# Altium schematic symbol library MI_Personal.SchLib: 995 symbols (part 7 of 12)
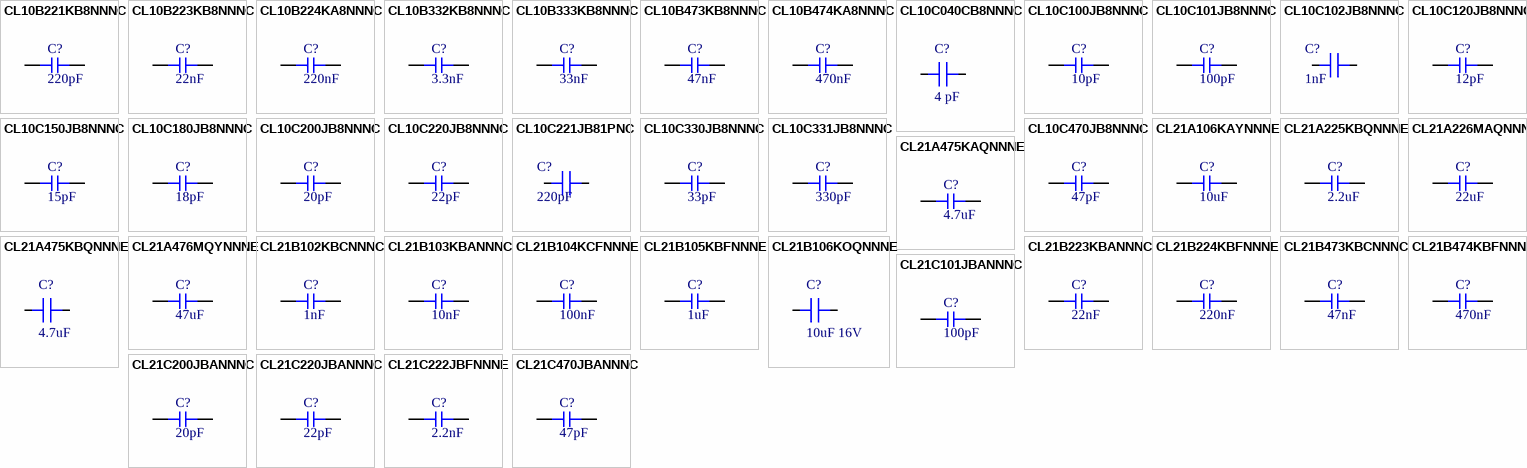
[diagram p33: symbols CL10B221KB8NNNC to CL21C470JBANNNC]

## CL10B224KA8NNNC
designator C?  Capacitance: 220nF  (hidden comment: *)
Capacitor, Ceramic (MLCC), 220nF, ±10%, 25V, X7R, ±10%, SMD 0603; Manufacturer: Samsung Electro-Mechanics; Manufacturer Part Number: CL10B224KA8NNNC; Temperature Rating: -55°C ~ 125°C; Capacitance @ 1V DC Bias: 214.166nF; Capacitance @ 1.2V DC Bias: 214.149nF; Capacitance @ 1.35V DC Bias: 214.098nF; Capacitance @ 1.5V DC Bias: 214.017nF; Capacitance @ 1.8V DC Bias: 213.754nF; Capacitance @ 2.5V DC Bias: 212.583nF; Capacitance @ 3.3V DC Bias: 210.552nF; Capacitance @ 3.7V DC Bias: 209.339nF; Capacitance @ 4.2V DC Bias: 207.706nF; Capacitance @ 5V DC Bias: 204.830nF; Capacitance @ 9V DC Bias: 188.295nF; Capacitance @ 12V DC Bias: 174.297nF; Capacitance @ 15V DC Bias: 160.282nF; Capacitance @ 24V DC Bias: 121.097nF; Impedance (0V Bias) @ 100Hz: 7.47E+03Ω; Impedance (0V Bias) @ 500Hz: 1.52E+03Ω; Impedance (0V Bias) @ 1kHz: 764Ω; Impedance (0V Bias) @ 5kHz: 155Ω; Impedance (0V Bias) @ 10kHz: 77.8Ω; Impedance (0V Bias) @ 50kHz: 15.8Ω; Impedance (0V Bias) @ 100kHz: 7.94Ω; Impedance (0V Bias) @ 500kHz: 1.61Ω; Impedance (0V Bias) @ 1MHz: 0.807Ω; Impedance (0V Bias) @ 5MHz: 0.15Ω; Impedance (0V Bias) @ 10MHz: 0.0545Ω; Impedance (0V Bias) @ 50MHz: 0.0963Ω; Impedance (0V Bias) @ 100MHz: 0.167Ω; Impedance (0V Bias) @ 500MHz: 0.676Ω; Impedance (0V Bias) @ 1GHz: 1.25Ω; Impedance (0V Bias) @ 2GHz: 3.05Ω; Impedance (0V Bias) @ 5GHz: 6.58Ω; Impedance (25V Bias) @ 100Hz: 1.33E+04Ω; Impedance (25V Bias) @ 500Hz: 2.69E+03Ω; Impedance (25V Bias) @ 1kHz: 1.35E+03Ω; Impedance (25V Bias) @ 5kHz: 274Ω; Impedance (25V Bias) @ 10kHz: 138Ω; Impedance (25V Bias) @ 50kHz: 27.9Ω; Impedance (25V Bias) @ 100kHz: 14Ω; Impedance (25V Bias) @ 500kHz: 2.83Ω; Impedance (25V Bias) @ 1MHz: 1.4Ω; Impedance (25V Bias) @ 5MHz: 0.297Ω; Impedance (25V Bias) @ 10MHz: 0.124Ω; Impedance (25V Bias) @ 50MHz: 0.11Ω; Impedance (25V Bias) @ 100MHz: 0.168Ω; Impedance (25V Bias) @ 2GHz: 3.02Ω; Package Size: 0603; JLCPCB Basic Part: Yes; JLCPCB Part Number: C21120; Supplier 1: LCSC; Category: Capacitors - MLCC; Supplier Part Number 1: C21120; Tolerance: ±10%; Voltage Rating: 25V; Temperature Coefficient: X7R; RoHS: Yes; ComponentLink1Description: Datasheet; ComponentLink1URL: https://wmsc.lcsc.com/wmsc/upload/file/pdf/v2/lcsc/2304140030_Samsung-Electro-Mechanics-CL10B224KA8NNNC_C21120.pdf; ComponentLink2Description: JLCPCB Part URL; ComponentLink2URL: https://jlcpcb.com/partdetail/C21120; ComponentLink3Description: LCSC Part URL; ComponentLink3URL: https://lcsc.com/product-detail/Multilayer-Ceramic-Capacitors-MLCC---SMD-SMT_Samsung-Electro-Mechanics-Samsung-Electro-Mechanics-CL10B224KA8NNNC_C21120.html; ComponentLink4Description: Samsung Component Library; ComponentLink4URL: https://weblib.samsungsem.com/mlcc/mlcc-ec.do?partNumber=CL10B224KA8NNN; Impedance (25V Bias) @ 500MHz: 0.676Ω; Impedance (25V Bias) @ 1GHz: 1.25Ω; Impedance (25V Bias) @ 5GHz: 6.58Ω
footprint CAP-0603 (0603 (1608M) Capacitor)
pins: 1, 2

## CL10B332KB8NNNC
designator C?  Capacitance: 3.3nF  (hidden comment: *)
Capacitor, Ceramic (MLCC), 3.3nF, ±10%, 50V, X7R, ±10%, SMD 0603; Manufacturer: Samsung Electro-Mechanics; Manufacturer Part Number: CL10B332KB8NNNC; Temperature Rating: -55°C ~ 125°C; Capacitance @ 1V DC Bias: 3.419nF; Capacitance @ 1.2V DC Bias: 3.421nF; Capacitance @ 1.35V DC Bias: 3.422nF; Capacitance @ 1.5V DC Bias: 3.424nF; Capacitance @ 1.8V DC Bias: 3.428nF; Capacitance @ 2.5V DC Bias: 3.437nF; Capacitance @ 3.3V DC Bias: 3.446nF; Capacitance @ 3.7V DC Bias: 3.450nF; Capacitance @ 4.2V DC Bias: 3.455nF; Capacitance @ 5V DC Bias: 3.461nF; Capacitance @ 9V DC Bias: 3.485nF; Capacitance @ 12V DC Bias: 3.488nF; Capacitance @ 15V DC Bias: 3.484nF; Capacitance @ 36V DC Bias: 3.270nF; Capacitance @ 48V DC Bias: 3.077nF; Impedance (0V Bias) @ 100Hz: 4.88E+05Ω; Impedance (0V Bias) @ 500Hz: 9.93E+04Ω; Impedance (0V Bias) @ 1kHz: 5E+04Ω; Impedance (0V Bias) @ 5kHz: 1.02E+04Ω; Impedance (0V Bias) @ 10kHz: 5.11E+03Ω; Impedance (0V Bias) @ 50kHz: 1.04E+03Ω; Impedance (0V Bias) @ 100kHz: 522Ω; Impedance (0V Bias) @ 500kHz: 106Ω; Impedance (0V Bias) @ 1MHz: 53.4Ω; Impedance (0V Bias) @ 5MHz: 10.9Ω; Impedance (0V Bias) @ 10MHz: 5.48Ω; Impedance (0V Bias) @ 50MHz: 1.01Ω; Impedance (0V Bias) @ 100MHz: 0.315Ω; Impedance (0V Bias) @ 500MHz: 1.17Ω; Impedance (0V Bias) @ 1GHz: 2.31Ω; Impedance (0V Bias) @ 2GHz: 5.99Ω; Impedance (0V Bias) @ 5GHz: 14.4Ω; Package Size: 0603; JLCPCB Basic Part: Yes; JLCPCB Part Number: C1613; Supplier 1: LCSC; Category: Capacitors - MLCC; Supplier Part Number 1: C1613; Tolerance: ±10%; Voltage Rating: 50V; Temperature Coefficient: X7R; RoHS: Yes; ComponentLink1Description: Datasheet; ComponentLink1URL: https://wmsc.lcsc.com/wmsc/upload/file/pdf/v2/lcsc/2304140030_Samsung-Electro-Mechanics-CL10B332KB8NNNC_C1613.pdf; ComponentLink2Description: JLCPCB Part URL; ComponentLink2URL: https://jlcpcb.com/partdetail/C1613; ComponentLink3Description: LCSC Part URL; ComponentLink3URL: https://lcsc.com/product-detail/Multilayer-Ceramic-Capacitors-MLCC---SMD-SMT_Samsung-Electro-Mechanics-Samsung-Electro-Mechanics-CL10B332KB8NNNC_C1613.html; ComponentLink4Description: Samsung Component Library; ComponentLink4URL: https://weblib.samsungsem.com/mlcc/mlcc-ec.do?partNumber=CL10B332KB8NNN; Capacitance @ 24V DC Bias: 3.422nF
footprint CAP-0603 (0603 (1608M) Capacitor)
pins: 1, 2

## CL10B333KB8NNNC
designator C?  Capacitance: 33nF  (hidden comment: *)
Capacitor, Ceramic (MLCC), 33nF, ±10%, 50V, X7R, ±10%, SMD 0603; Manufacturer: Samsung Electro-Mechanics; Manufacturer Part Number: CL10B333KB8NNNC; Temperature Rating: -55°C ~ 125°C; Capacitance @ 1V DC Bias: 32.568nF; Capacitance @ 1.2V DC Bias: 32.574nF; Capacitance @ 1.35V DC Bias: 32.601nF; Capacitance @ 1.5V DC Bias: 32.639nF; Capacitance @ 1.8V DC Bias: 32.736nF; Capacitance @ 2.5V DC Bias: 32.973nF; Capacitance @ 3.3V DC Bias: 33.205nF; Capacitance @ 3.7V DC Bias: 33.269nF; Capacitance @ 4.2V DC Bias: 33.287nF; Capacitance @ 5V DC Bias: 33.190nF; Capacitance @ 9V DC Bias: 32.640nF; Capacitance @ 12V DC Bias: 31.976nF; Capacitance @ 15V DC Bias: 31.196nF; Capacitance @ 24V DC Bias: 28.006nF; Capacitance @ 36V DC Bias: 22.645nF; Capacitance @ 48V DC Bias: 16.419nF; Impedance (0V Bias) @ 100Hz: 4.98E+04Ω; Impedance (0V Bias) @ 500Hz: 1.01E+04Ω; Impedance (0V Bias) @ 1kHz: 5.1E+03Ω; Impedance (0V Bias) @ 5kHz: 1.03E+03Ω; Impedance (0V Bias) @ 10kHz: 520Ω; Impedance (0V Bias) @ 50kHz: 105Ω; Impedance (0V Bias) @ 100kHz: 52.9Ω; Impedance (0V Bias) @ 500kHz: 10.7Ω; Impedance (0V Bias) @ 1MHz: 5.38Ω; Impedance (0V Bias) @ 5MHz: 1.08Ω; Impedance (0V Bias) @ 10MHz: 0.525Ω; Impedance (0V Bias) @ 50MHz: 0.0517Ω; Impedance (0V Bias) @ 100MHz: 0.207Ω; Impedance (0V Bias) @ 500MHz: 0.857Ω; Impedance (0V Bias) @ 1GHz: 1.64Ω; Impedance (0V Bias) @ 2GHz: 4.13Ω; Impedance (0V Bias) @ 5GHz: 8.72Ω; Package Size: 0603; JLCPCB Basic Part: Yes; JLCPCB Part Number: C21117; Supplier 1: LCSC; Category: Capacitors - MLCC; Supplier Part Number 1: C21117; Tolerance: ±10%; Voltage Rating: 50V; Temperature Coefficient: X7R; RoHS: Yes; ComponentLink1Description: Datasheet; ComponentLink1URL: https://wmsc.lcsc.com/wmsc/upload/file/pdf/v2/lcsc/2304140030_Samsung-Electro-Mechanics-CL10B333KB8NNNC_C21117.pdf; ComponentLink2Description: JLCPCB Part URL; ComponentLink2URL: https://jlcpcb.com/partdetail/C21117; ComponentLink3Description: LCSC Part URL; ComponentLink3URL: https://lcsc.com/product-detail/Multilayer-Ceramic-Capacitors-MLCC---SMD-SMT_Samsung-Electro-Mechanics-Samsung-Electro-Mechanics-CL10B333KB8NNNC_C21117.html; ComponentLink4Description: Samsung Component Library; ComponentLink4URL: https://weblib.samsungsem.com/mlcc/mlcc-ec.do?partNumber=CL10B333KB8NNN
footprint CAP-0603 (0603 (1608M) Capacitor)
pins: 1, 2

## CL10B473KB8NNNC
designator C?  Capacitance: 47nF  (hidden comment: *)
Capacitor, Ceramic (MLCC), 47nF, ±10%, 50V, X7R, ±10%, SMD 0603; Manufacturer: Samsung Electro-Mechanics; Manufacturer Part Number: CL10B473KB8NNNC; Temperature Rating: -55°C ~ 125°C; Capacitance @ 1V DC Bias: 47.231nF; Capacitance @ 1.2V DC Bias: 47.280nF; Capacitance @ 1.35V DC Bias: 47.319nF; Capacitance @ 1.5V DC Bias: 47.357nF; Capacitance @ 1.8V DC Bias: 47.426nF; Capacitance @ 2.5V DC Bias: 47.515nF; Capacitance @ 3.3V DC Bias: 47.532nF; Capacitance @ 3.7V DC Bias: 47.514nF; Capacitance @ 4.2V DC Bias: 47.475nF; Capacitance @ 5V DC Bias: 47.375nF; Capacitance @ 9V DC Bias: 46.446nF; Capacitance @ 12V DC Bias: 45.320nF; Capacitance @ 15V DC Bias: 44.061nF; Capacitance @ 24V DC Bias: 39.258nF; Capacitance @ 36V DC Bias: 31.412nF; Capacitance @ 48V DC Bias: 23.014nF; Impedance (0V Bias) @ 100Hz: 3.3E+04Ω; Impedance (0V Bias) @ 500Hz: 6.73E+03Ω; Impedance (0V Bias) @ 1kHz: 3.4E+03Ω; Impedance (0V Bias) @ 5kHz: 693Ω; Impedance (0V Bias) @ 10kHz: 349Ω; Impedance (0V Bias) @ 50kHz: 71.1Ω; Impedance (0V Bias) @ 100kHz: 35.7Ω; Impedance (0V Bias) @ 500kHz: 7.27Ω; Impedance (0V Bias) @ 1MHz: 3.65Ω; Impedance (0V Bias) @ 5MHz: 0.738Ω; Impedance (0V Bias) @ 10MHz: 0.364Ω; Impedance (0V Bias) @ 50MHz: 0.0607Ω; Impedance (0V Bias) @ 100MHz: 0.192Ω; Impedance (0V Bias) @ 500MHz: 0.928Ω; Impedance (0V Bias) @ 1GHz: 1.81Ω; Impedance (0V Bias) @ 2GHz: 4.68Ω; Impedance (0V Bias) @ 5GHz: 10.5Ω; Package Size: 0603; JLCPCB Basic Part: Yes; JLCPCB Part Number: C1622; Supplier 1: LCSC; Category: Capacitors - MLCC; Supplier Part Number 1: C1622; Tolerance: ±10%; Voltage Rating: 50V; Temperature Coefficient: X7R; RoHS: Yes; ComponentLink1Description: Datasheet; ComponentLink1URL: https://wmsc.lcsc.com/wmsc/upload/file/pdf/v2/lcsc/2304140030_Samsung-Electro-Mechanics-CL10B473KB8NNNC_C1622.pdf; ComponentLink2Description: JLCPCB Part URL; ComponentLink2URL: https://jlcpcb.com/partdetail/C1622; ComponentLink3Description: LCSC Part URL; ComponentLink3URL: https://lcsc.com/product-detail/Multilayer-Ceramic-Capacitors-MLCC---SMD-SMT_Samsung-Electro-Mechanics-Samsung-Electro-Mechanics-CL10B473KB8NNNC_C1622.html; ComponentLink4Description: Samsung Component Library; ComponentLink4URL: https://weblib.samsungsem.com/mlcc/mlcc-ec.do?partNumber=CL10B473KB8NNN
footprint CAP-0603 (0603 (1608M) Capacitor)
pins: 1, 2

## CL10B474KA8NNNC
designator C?  Capacitance: 470nF  (hidden comment: *)
Capacitor, Ceramic (MLCC), 470nF, ±10%, 25V, X7R, ±10%, SMD 0603; Manufacturer: Samsung Electro-Mechanics; Manufacturer Part Number: CL10B474KA8NNNC; Temperature Rating: -55°C ~ 125°C; Capacitance @ 1V DC Bias: 478.182nF; Capacitance @ 1.2V DC Bias: 478.296nF; Capacitance @ 1.35V DC Bias: 478.281nF; Capacitance @ 1.5V DC Bias: 478.153nF; Capacitance @ 1.8V DC Bias: 477.489nF; Capacitance @ 2.5V DC Bias: 472.414nF; Capacitance @ 3.3V DC Bias: 462.957nF; Capacitance @ 3.7V DC Bias: 457.410nF; Capacitance @ 4.2V DC Bias: 450.090nF; Capacitance @ 5V DC Bias: 437.532nF; Capacitance @ 9V DC Bias: 369.261nF; Capacitance @ 12V DC Bias: 317.341nF; Capacitance @ 15V DC Bias: 268.462nF; Capacitance @ 24V DC Bias: 160.798nF; Impedance (0V Bias) @ 100Hz: 3.92E+03Ω; Impedance (0V Bias) @ 500Hz: 796Ω; Impedance (0V Bias) @ 1kHz: 401Ω; Impedance (0V Bias) @ 5kHz: 81.2Ω; Impedance (0V Bias) @ 10kHz: 40.9Ω; Impedance (0V Bias) @ 50kHz: 8.29Ω; Impedance (0V Bias) @ 100kHz: 4.17Ω; Impedance (0V Bias) @ 500kHz: 0.844Ω; Impedance (0V Bias) @ 1MHz: 0.422Ω; Impedance (0V Bias) @ 5MHz: 0.0719Ω; Impedance (0V Bias) @ 10MHz: 0.0175Ω; Impedance (0V Bias) @ 50MHz: 0.0949Ω; Impedance (0V Bias) @ 100MHz: 0.17Ω; Impedance (0V Bias) @ 500MHz: 0.717Ω; Impedance (0V Bias) @ 1GHz: 1.36Ω; Impedance (0V Bias) @ 2GHz: 3.45Ω; Impedance (0V Bias) @ 5GHz: 7.51Ω; Impedance (25V Bias) @ 100Hz: 1.18E+04Ω; Impedance (25V Bias) @ 500Hz: 2.38E+03Ω; Impedance (25V Bias) @ 1kHz: 1.2E+03Ω; Impedance (25V Bias) @ 5kHz: 242Ω; Impedance (25V Bias) @ 10kHz: 121Ω; Impedance (25V Bias) @ 50kHz: 24.5Ω; Impedance (25V Bias) @ 100kHz: 12.3Ω; Impedance (25V Bias) @ 500kHz: 2.47Ω; Impedance (25V Bias) @ 1MHz: 1.22Ω; Impedance (25V Bias) @ 5MHz: 0.256Ω; Impedance (25V Bias) @ 10MHz: 0.109Ω; Impedance (25V Bias) @ 50MHz: 0.11Ω; Impedance (25V Bias) @ 100MHz: 0.171Ω; Impedance (25V Bias) @ 500MHz: 0.718Ω; Impedance (25V Bias) @ 2GHz: 3.41Ω; Impedance (25V Bias) @ 5GHz: 7.6Ω; Package Size: 0603; JLCPCB Basic Part: Yes; JLCPCB Part Number: C1623; Supplier 1: LCSC; Category: Capacitors - MLCC; Supplier Part Number 1: C1623; Tolerance: ±10%; Voltage Rating: 25V; Temperature Coefficient: X7R; RoHS: Yes; ComponentLink1Description: Datasheet; ComponentLink1URL: https://wmsc.lcsc.com/wmsc/upload/file/pdf/v2/lcsc/2304140030_Samsung-Electro-Mechanics-CL10B474KA8NNNC_C1623.pdf; ComponentLink2Description: JLCPCB Part URL; ComponentLink2URL: https://jlcpcb.com/partdetail/C1623; ComponentLink3Description: LCSC Part URL; ComponentLink3URL: https://lcsc.com/product-detail/Multilayer-Ceramic-Capacitors-MLCC---SMD-SMT_Samsung-Electro-Mechanics-Samsung-Electro-Mechanics-CL10B474KA8NNNC_C1623.html; ComponentLink4Description: Samsung Component Library; ComponentLink4URL: https://weblib.samsungsem.com/mlcc/mlcc-ec.do?partNumber=CL10B474KA8NNN; Impedance (25V Bias) @ 1GHz: 1.36Ω
footprint CAP-0603 (0603 (1608M) Capacitor)
pins: 1, 2

## CL10C040CB8NNNC
designator C?, comment 4 pF
CAP CER 4PF 50V C0G/NP0 0603; Supplier 1: Digikey; Supplier Part Number 1: 1276-1789-1-ND; Supplier 2: LCSC; Supplier Part Number 2: C5143542; Supplier 3: Digikey; Supplier Part Number 3: 13-CC0603BRNPO9BN4R0CT-ND; Supplier 4: LCSC; Supplier Part Number 4: C309461
footprint CAP 0603_1608 (Chip Capacitor, 2-Leads, Body 1.60x0.80mm, IPC Medium Density)
pins: 1, 2

## CL10C100JB8NNNC
designator C?  Capacitance: 10pF  (hidden comment: *)
Capacitor, Ceramic (MLCC), 10pF, ±5%, 50V, C0G, ±5%, SMD 0603; Manufacturer: Samsung Electro-Mechanics; Manufacturer Part Number: CL10C100JB8NNNC; Temperature Rating: -55°C ~ 125°C; Impedance (0V Bias) @ 100MHz: 159Ω; Impedance (0V Bias) @ 500MHz: 30.3Ω; Impedance (0V Bias) @ 1GHz: 12.8Ω; Impedance (0V Bias) @ 2GHz: 1.36Ω; Impedance (0V Bias) @ 5GHz: 12.1Ω; Package Size: 0603; JLCPCB Basic Part: Yes; JLCPCB Part Number: C1634; Supplier 1: LCSC; Category: Capacitors - MLCC; Supplier Part Number 1: C1634; Tolerance: ±5%; Voltage Rating: 50V; Temperature Coefficient: C0G; RoHS: Yes; ComponentLink1Description: Datasheet; ComponentLink1URL: https://wmsc.lcsc.com/wmsc/upload/file/pdf/v2/lcsc/2304140030_Samsung-Electro-Mechanics-CL10C100JB8NNNC_C1634.pdf; ComponentLink2Description: JLCPCB Part URL; ComponentLink2URL: https://jlcpcb.com/partdetail/C1634; ComponentLink3Description: LCSC Part URL; ComponentLink3URL: https://lcsc.com/product-detail/Multilayer-Ceramic-Capacitors-MLCC---SMD-SMT_Samsung-Electro-Mechanics-Samsung-Electro-Mechanics-CL10C100JB8NNNC_C1634.html; ComponentLink4Description: Samsung Component Library; ComponentLink4URL: https://weblib.samsungsem.com/mlcc/mlcc-ec.do?partNumber=CL10C100JB8NNN
footprint CAP-0603 (0603 (1608M) Capacitor)
pins: 1, 2

## CL10C101JB8NNNC
designator C?  Capacitance: 100pF  (hidden comment: *)
Capacitor, Ceramic (MLCC), 100pF, ±5%, 50V, C0G, ±5%, SMD 0603; Manufacturer: Samsung Electro-Mechanics; Manufacturer Part Number: CL10C101JB8NNNC; Temperature Rating: -55°C ~ 125°C; Impedance (0V Bias) @ 100MHz: 15.6Ω; Impedance (0V Bias) @ 500MHz: 1.7Ω; Impedance (0V Bias) @ 1GHz: 1.36Ω; Impedance (0V Bias) @ 2GHz: 7.02Ω; Impedance (0V Bias) @ 5GHz: 12.9Ω; Package Size: 0603; JLCPCB Basic Part: Yes; JLCPCB Part Number: C14858; Supplier 1: LCSC; Category: Capacitors - MLCC; Supplier Part Number 1: C14858; Tolerance: ±5%; Voltage Rating: 50V; Temperature Coefficient: C0G; RoHS: Yes; ComponentLink1Description: Datasheet; ComponentLink1URL: https://wmsc.lcsc.com/wmsc/upload/file/pdf/v2/lcsc/2304140030_Samsung-Electro-Mechanics-CL10C101JB8NNNC_C14858.pdf; ComponentLink2Description: JLCPCB Part URL; ComponentLink2URL: https://jlcpcb.com/partdetail/C14858; ComponentLink3Description: LCSC Part URL; ComponentLink3URL: https://lcsc.com/product-detail/Multilayer-Ceramic-Capacitors-MLCC---SMD-SMT_Samsung-Electro-Mechanics-Samsung-Electro-Mechanics-CL10C101JB8NNNC_C14858.html; ComponentLink4Description: Samsung Component Library; ComponentLink4URL: https://weblib.samsungsem.com/mlcc/mlcc-ec.do?partNumber=CL10C101JB8NNN
footprint CAP-0603 (0603 (1608M) Capacitor)
pins: 1, 2

## CL10C102JB8NNNC
designator C?, comment 1nF
CAP CER 1000PF 50V C0G/NP0 0603; Supplier 1: DigiKey; Supplier Part Number 1: 1276-1091-1-ND; Supplier 2: LCSC; Supplier Part Number 2: C163508; Supplier 3: Digikey; Supplier Part Number 3: 490-6379-1-ND; Supplier 4: LCSC; Supplier Part Number 4: C2167114
footprint CAP 0603_1608 (Chip Capacitor, 2-Leads, Body 1.60x0.80mm, IPC Medium Density)
pins: 1, 2

## CL10C120JB8NNNC
designator C?  Capacitance: 12pF  (hidden comment: *)
Capacitor, Ceramic (MLCC), 12pF, ±5%, 50V, C0G, ±5%, SMD 0603; Manufacturer: Samsung Electro-Mechanics; Manufacturer Part Number: CL10C120JB8NNNC; Temperature Rating: -55°C ~ 125°C; Impedance (0V Bias) @ 100MHz: 132Ω; Impedance (0V Bias) @ 500MHz: 25Ω; Impedance (0V Bias) @ 1GHz: 10.2Ω; Impedance (0V Bias) @ 2GHz: 2.16Ω; Impedance (0V Bias) @ 5GHz: 12.3Ω; Package Size: 0603; JLCPCB Basic Part: Yes; JLCPCB Part Number: C38523; Supplier 1: LCSC; Category: Capacitors - MLCC; Supplier Part Number 1: C38523; Tolerance: ±5%; Voltage Rating: 50V; Temperature Coefficient: C0G; RoHS: Yes; ComponentLink1Description: Datasheet; ComponentLink1URL: https://wmsc.lcsc.com/wmsc/upload/file/pdf/v2/lcsc/2304140030_Samsung-Electro-Mechanics-CL10C120JB8NNNC_C38523.pdf; ComponentLink2Description: JLCPCB Part URL; ComponentLink2URL: https://jlcpcb.com/partdetail/C38523; ComponentLink3Description: LCSC Part URL; ComponentLink3URL: https://lcsc.com/product-detail/Multilayer-Ceramic-Capacitors-MLCC---SMD-SMT_Samsung-Electro-Mechanics-Samsung-Electro-Mechanics-CL10C120JB8NNNC_C38523.html; ComponentLink4Description: Samsung Component Library; ComponentLink4URL: https://weblib.samsungsem.com/mlcc/mlcc-ec.do?partNumber=CL10C120JB8NNN
footprint CAP-0603 (0603 (1608M) Capacitor)
pins: 1, 2

## CL10C150JB8NNNC
designator C?  Capacitance: 15pF  (hidden comment: *)
Capacitor, Ceramic (MLCC), 15pF, ±5%, 50V, C0G, ±5%, SMD 0603; Manufacturer: Samsung Electro-Mechanics; Manufacturer Part Number: CL10C150JB8NNNC; Temperature Rating: -55°C ~ 125°C; Impedance (0V Bias) @ 100MHz: 106Ω; Impedance (0V Bias) @ 500MHz: 19.6Ω; Impedance (0V Bias) @ 1GHz: 7.46Ω; Impedance (0V Bias) @ 2GHz: 3.52Ω; Impedance (0V Bias) @ 5GHz: 13.7Ω; Package Size: 0603; JLCPCB Basic Part: Yes; JLCPCB Part Number: C1644; Supplier 1: LCSC; Category: Capacitors - MLCC; Supplier Part Number 1: C1644; Tolerance: ±5%; Voltage Rating: 50V; Temperature Coefficient: C0G; RoHS: Yes; ComponentLink1Description: Datasheet; ComponentLink1URL: https://wmsc.lcsc.com/wmsc/upload/file/pdf/v2/lcsc/2304140030_Samsung-Electro-Mechanics-CL10C150JB8NNNC_C1644.pdf; ComponentLink2Description: JLCPCB Part URL; ComponentLink2URL: https://jlcpcb.com/partdetail/C1644; ComponentLink3Description: LCSC Part URL; ComponentLink3URL: https://lcsc.com/product-detail/Multilayer-Ceramic-Capacitors-MLCC---SMD-SMT_Samsung-Electro-Mechanics-Samsung-Electro-Mechanics-CL10C150JB8NNNC_C1644.html; ComponentLink4Description: Samsung Component Library; ComponentLink4URL: https://weblib.samsungsem.com/mlcc/mlcc-ec.do?partNumber=CL10C150JB8NNN
footprint CAP-0603 (0603 (1608M) Capacitor)
pins: 1, 2

## CL10C180JB8NNNC
designator C?  Capacitance: 18pF  (hidden comment: *)
Capacitor, Ceramic (MLCC), 18pF, ±5%, 50V, C0G, ±5%, SMD 0603; Manufacturer: Samsung Electro-Mechanics; Manufacturer Part Number: CL10C180JB8NNNC; Temperature Rating: -55°C ~ 125°C; Impedance (0V Bias) @ 100MHz: 88.1Ω; Impedance (0V Bias) @ 500MHz: 16.1Ω; Impedance (0V Bias) @ 1GHz: 5.68Ω; Impedance (0V Bias) @ 2GHz: 4.25Ω; Impedance (0V Bias) @ 5GHz: 14.2Ω; Package Size: 0603; JLCPCB Basic Part: Yes; JLCPCB Part Number: C1647; Supplier 1: LCSC; Category: Capacitors - MLCC; Supplier Part Number 1: C1647; Tolerance: ±5%; Voltage Rating: 50V; Temperature Coefficient: C0G; RoHS: Yes; ComponentLink1Description: Datasheet; ComponentLink1URL: https://wmsc.lcsc.com/wmsc/upload/file/pdf/v2/lcsc/2304140030_Samsung-Electro-Mechanics-CL10C180JB8NNNC_C1647.pdf; ComponentLink2Description: JLCPCB Part URL; ComponentLink2URL: https://jlcpcb.com/partdetail/C1647; ComponentLink3Description: LCSC Part URL; ComponentLink3URL: https://lcsc.com/product-detail/Multilayer-Ceramic-Capacitors-MLCC---SMD-SMT_Samsung-Electro-Mechanics-Samsung-Electro-Mechanics-CL10C180JB8NNNC_C1647.html; ComponentLink4Description: Samsung Component Library; ComponentLink4URL: https://weblib.samsungsem.com/mlcc/mlcc-ec.do?partNumber=CL10C180JB8NNN
footprint CAP-0603 (0603 (1608M) Capacitor)
pins: 1, 2

## CL10C200JB8NNNC
designator C?  Capacitance: 20pF  (hidden comment: *)
Capacitor, Ceramic (MLCC), 20pF, ±5%, 50V, C0G, ±5%, SMD 0603; Manufacturer: Samsung Electro-Mechanics; Manufacturer Part Number: CL10C200JB8NNNC; Temperature Rating: -55°C ~ 125°C; Impedance (0V Bias) @ 100MHz: 79.3Ω; Impedance (0V Bias) @ 500MHz: 14.4Ω; Impedance (0V Bias) @ 1GHz: 5.02Ω; Impedance (0V Bias) @ 2GHz: 4.03Ω; Impedance (0V Bias) @ 5GHz: 13.8Ω; Package Size: 0603; JLCPCB Basic Part: Yes; JLCPCB Part Number: C1648; Supplier 1: LCSC; Category: Capacitors - MLCC; Supplier Part Number 1: C1648; Tolerance: ±5%; Voltage Rating: 50V; Temperature Coefficient: C0G; RoHS: Yes; ComponentLink1Description: Datasheet; ComponentLink1URL: https://wmsc.lcsc.com/wmsc/upload/file/pdf/v2/lcsc/2304140030_Samsung-Electro-Mechanics-CL10C200JB8NNNC_C1648.pdf; ComponentLink2Description: JLCPCB Part URL; ComponentLink2URL: https://jlcpcb.com/partdetail/C1648; ComponentLink3Description: LCSC Part URL; ComponentLink3URL: https://lcsc.com/product-detail/Multilayer-Ceramic-Capacitors-MLCC---SMD-SMT_Samsung-Electro-Mechanics-Samsung-Electro-Mechanics-CL10C200JB8NNNC_C1648.html; ComponentLink4Description: Samsung Component Library; ComponentLink4URL: https://weblib.samsungsem.com/mlcc/mlcc-ec.do?partNumber=CL10C200JB8NNN
footprint CAP-0603 (0603 (1608M) Capacitor)
pins: 1, 2

## CL10C220JB8NNNC
designator C?  Capacitance: 22pF  (hidden comment: *)
Capacitor, Ceramic (MLCC), 22pF, ±5%, 50V, C0G, ±5%, SMD 0603; Manufacturer: Samsung Electro-Mechanics; Manufacturer Part Number: CL10C220JB8NNNC; Temperature Rating: -55°C ~ 125°C; Impedance (0V Bias) @ 100MHz: 72Ω; Impedance (0V Bias) @ 500MHz: 12.9Ω; Impedance (0V Bias) @ 1GHz: 4.05Ω; Impedance (0V Bias) @ 2GHz: 4.92Ω; Impedance (0V Bias) @ 5GHz: 15.4Ω; Package Size: 0603; JLCPCB Basic Part: Yes; JLCPCB Part Number: C1653; Supplier 1: LCSC; Category: Capacitors - MLCC; Supplier Part Number 1: C1653; Tolerance: ±5%; Voltage Rating: 50V; Temperature Coefficient: C0G; RoHS: Yes; ComponentLink1Description: Datasheet; ComponentLink1URL: https://wmsc.lcsc.com/wmsc/upload/file/pdf/v2/lcsc/2304140030_Samsung-Electro-Mechanics-CL10C220JB8NNNC_C1653.pdf; ComponentLink2Description: JLCPCB Part URL; ComponentLink2URL: https://jlcpcb.com/partdetail/C1653; ComponentLink3Description: LCSC Part URL; ComponentLink3URL: https://lcsc.com/product-detail/Multilayer-Ceramic-Capacitors-MLCC---SMD-SMT_Samsung-Electro-Mechanics-Samsung-Electro-Mechanics-CL10C220JB8NNNC_C1653.html; ComponentLink4Description: Samsung Component Library; ComponentLink4URL: https://weblib.samsungsem.com/mlcc/mlcc-ec.do?partNumber=CL10C220JB8NNN
footprint CAP-0603 (0603 (1608M) Capacitor)
pins: 1, 2

## CL10C221JB81PNC
designator C?, comment 220pF
CAP CER 220PF 50V C0G/NP0 0603; Supplier 1: Digikey; Supplier Part Number 1: 1276-2233-1-ND; Supplier 2: LCSC; Supplier Part Number 2: C307359; Supplier 3: Digikey; Supplier Part Number 3: 490-4947-1-ND; Supplier 4: LCSC; Supplier Part Number 4: C388907
footprint CAP 0603_1608 (Chip Capacitor, 2-Leads, Body 1.60x0.80mm, IPC Medium Density)
pins: 1, 2

## CL10C330JB8NNNC
designator C?  Capacitance: 33pF  (hidden comment: *)
Capacitor, Ceramic (MLCC), 33pF, ±5%, 50V, C0G, ±5%, SMD 0603; Manufacturer: Samsung Electro-Mechanics; Manufacturer Part Number: CL10C330JB8NNNC; Temperature Rating: -55°C ~ 125°C; Impedance (0V Bias) @ 100MHz: 47.9Ω; Impedance (0V Bias) @ 500MHz: 8.21Ω; Impedance (0V Bias) @ 1GHz: 2.01Ω; Impedance (0V Bias) @ 2GHz: 5.04Ω; Impedance (0V Bias) @ 5GHz: 11.1Ω; Package Size: 0603; JLCPCB Basic Part: Yes; JLCPCB Part Number: C1663; Supplier 1: LCSC; Category: Capacitors - MLCC; Supplier Part Number 1: C1663; Tolerance: ±5%; Voltage Rating: 50V; Temperature Coefficient: C0G; RoHS: Yes; ComponentLink1Description: Datasheet; ComponentLink1URL: https://wmsc.lcsc.com/wmsc/upload/file/pdf/v2/lcsc/2304140030_Samsung-Electro-Mechanics-CL10C330JB8NNNC_C1663.pdf; ComponentLink2Description: JLCPCB Part URL; ComponentLink2URL: https://jlcpcb.com/partdetail/C1663; ComponentLink3Description: LCSC Part URL; ComponentLink3URL: https://lcsc.com/product-detail/Multilayer-Ceramic-Capacitors-MLCC---SMD-SMT_Samsung-Electro-Mechanics-Samsung-Electro-Mechanics-CL10C330JB8NNNC_C1663.html; ComponentLink4Description: Samsung Component Library; ComponentLink4URL: https://weblib.samsungsem.com/mlcc/mlcc-ec.do?partNumber=CL10C330JB8NNN
footprint CAP-0603 (0603 (1608M) Capacitor)
pins: 1, 2

## CL10C331JB8NNNC
designator C?  Capacitance: 330pF  (hidden comment: *)
Capacitor, Ceramic (MLCC), 330pF, ±5%, 50V, C0G, ±5%, SMD 0603; Manufacturer: Samsung Electro-Mechanics; Manufacturer Part Number: CL10C331JB8NNNC; Temperature Rating: -55°C ~ 125°C; Impedance (0V Bias) @ 10MHz: 48.2Ω; Impedance (0V Bias) @ 50MHz: 9.5Ω; Impedance (0V Bias) @ 100MHz: 4.55Ω; Impedance (0V Bias) @ 500MHz: 0.412Ω; Impedance (0V Bias) @ 1GHz: 2.16Ω; Impedance (0V Bias) @ 2GHz: 4.95Ω; Impedance (0V Bias) @ 5GHz: 9.93Ω; Package Size: 0603; JLCPCB Basic Part: Yes; JLCPCB Part Number: C1664; Supplier 1: LCSC; Category: Capacitors - MLCC; Supplier Part Number 1: C1664; Tolerance: ±5%; Voltage Rating: 50V; Temperature Coefficient: C0G; RoHS: Yes; ComponentLink1Description: Datasheet; ComponentLink1URL: https://wmsc.lcsc.com/wmsc/upload/file/pdf/v2/lcsc/2304140030_Samsung-Electro-Mechanics-CL10C331JB8NNNC_C1664.pdf; ComponentLink2Description: JLCPCB Part URL; ComponentLink2URL: https://jlcpcb.com/partdetail/C1664; ComponentLink3Description: LCSC Part URL; ComponentLink3URL: https://lcsc.com/product-detail/Multilayer-Ceramic-Capacitors-MLCC---SMD-SMT_Samsung-Electro-Mechanics-Samsung-Electro-Mechanics-CL10C331JB8NNNC_C1664.html; ComponentLink4Description: Samsung Component Library; ComponentLink4URL: https://weblib.samsungsem.com/mlcc/mlcc-ec.do?partNumber=CL10C331JB8NNN
footprint CAP-0603 (0603 (1608M) Capacitor)
pins: 1, 2

## CL10C470JB8NNNC
designator C?  Capacitance: 47pF  (hidden comment: *)
Capacitor, Ceramic (MLCC), 47pF, ±5%, 50V, C0G, ±5%, SMD 0603; Manufacturer: Samsung Electro-Mechanics; Manufacturer Part Number: CL10C470JB8NNNC; Temperature Rating: -55°C ~ 125°C; Impedance (0V Bias) @ 100MHz: 33.5Ω; Impedance (0V Bias) @ 500MHz: 4.98Ω; Impedance (0V Bias) @ 1GHz: 0.296Ω; Impedance (0V Bias) @ 2GHz: 7.28Ω; Impedance (0V Bias) @ 5GHz: 16.2Ω; Package Size: 0603; JLCPCB Basic Part: Yes; JLCPCB Part Number: C1671; Supplier 1: LCSC; Category: Capacitors - MLCC; Supplier Part Number 1: C1671; Tolerance: ±5%; Voltage Rating: 50V; Temperature Coefficient: C0G; RoHS: Yes; ComponentLink1Description: Datasheet; ComponentLink1URL: https://wmsc.lcsc.com/wmsc/upload/file/pdf/v2/lcsc/2304140030_Samsung-Electro-Mechanics-CL10C470JB8NNNC_C1671.pdf; ComponentLink2Description: JLCPCB Part URL; ComponentLink2URL: https://jlcpcb.com/partdetail/C1671; ComponentLink3Description: LCSC Part URL; ComponentLink3URL: https://lcsc.com/product-detail/Multilayer-Ceramic-Capacitors-MLCC---SMD-SMT_Samsung-Electro-Mechanics-Samsung-Electro-Mechanics-CL10C470JB8NNNC_C1671.html; ComponentLink4Description: Samsung Component Library; ComponentLink4URL: https://weblib.samsungsem.com/mlcc/mlcc-ec.do?partNumber=CL10C470JB8NNN
footprint CAP-0603 (0603 (1608M) Capacitor)
pins: 1, 2

## CL21A106KAYNNNE
designator C?  Capacitance: 10uF  (hidden comment: *)
Capacitor, Ceramic (MLCC), 10uF, ±10%, 25V, X5R, ±10%, SMD 0805; Manufacturer: Samsung Electro-Mechanics; Manufacturer Part Number: CL21A106KAYNNNE; Temperature Rating: -55°C ~ 85°C; Capacitance @ 1V DC Bias: 10.643uF; Capacitance @ 1.2V DC Bias: 10.491uF; Capacitance @ 1.35V DC Bias: 10.346uF; Capacitance @ 1.5V DC Bias: 10.185uF; Capacitance @ 1.8V DC Bias: 9.822uF; Capacitance @ 2.5V DC Bias: 8.853uF; Capacitance @ 3.3V DC Bias: 7.678uF; Capacitance @ 3.7V DC Bias: 7.129uF; Capacitance @ 4.2V DC Bias: 6.498uF; Capacitance @ 5V DC Bias: 5.625uF; Capacitance @ 9V DC Bias: 2.972uF; Capacitance @ 12V DC Bias: 2.172uF; Capacitance @ 15V DC Bias: 1.589uF; Capacitance @ 24V DC Bias: 0.886uF; Impedance (0V Bias) @ 100Hz: 222Ω; Impedance (0V Bias) @ 500Hz: 45.6Ω; Impedance (0V Bias) @ 1kHz: 23.1Ω; Impedance (0V Bias) @ 5kHz: 4.73Ω; Impedance (0V Bias) @ 10kHz: 2.39Ω; Impedance (0V Bias) @ 50kHz: 0.49Ω; Impedance (0V Bias) @ 100kHz: 0.247Ω; Impedance (0V Bias) @ 500kHz: 0.0488Ω; Impedance (0V Bias) @ 1MHz: 0.0217Ω; Impedance (0V Bias) @ 5MHz: 0.0162Ω; Impedance (0V Bias) @ 10MHz: 0.0226Ω; Impedance (0V Bias) @ 50MHz: 0.0707Ω; Impedance (0V Bias) @ 100MHz: 0.125Ω; Impedance (0V Bias) @ 500MHz: 0.519Ω; Impedance (0V Bias) @ 1GHz: 1Ω; Impedance (0V Bias) @ 2GHz: 2.61Ω; Impedance (0V Bias) @ 5GHz: 3.47Ω; Impedance (25V Bias) @ 100Hz: 1.99E+03Ω; Impedance (25V Bias) @ 500Hz: 400Ω; Impedance (25V Bias) @ 1kHz: 201Ω; Impedance (25V Bias) @ 5kHz: 40.5Ω; Impedance (25V Bias) @ 10kHz: 20.3Ω; Impedance (25V Bias) @ 50kHz: 4.09Ω; Impedance (25V Bias) @ 100kHz: 2.05Ω; Impedance (25V Bias) @ 500kHz: 0.407Ω; Impedance (25V Bias) @ 1MHz: 0.181Ω; Impedance (25V Bias) @ 5MHz: 0.0296Ω; Impedance (25V Bias) @ 10MHz: 0.0203Ω; Impedance (25V Bias) @ 50MHz: 0.0794Ω; Impedance (25V Bias) @ 100MHz: 0.128Ω; Impedance (25V Bias) @ 1GHz: 0.987Ω; Impedance (25V Bias) @ 2GHz: 2.53Ω; Impedance (25V Bias) @ 5GHz: 3.45Ω; Package Size: 0805; JLCPCB Basic Part: Yes; JLCPCB Part Number: C15850; Supplier 1: LCSC; Category: Capacitors - MLCC; Supplier Part Number 1: C15850; Tolerance: ±10%; Voltage Rating: 25V; Temperature Coefficient: X5R; RoHS: Yes; ComponentLink1Description: Datasheet; ComponentLink1URL: https://wmsc.lcsc.com/wmsc/upload/file/pdf/v2/lcsc/2304140030_Samsung-Electro-Mechanics-CL21A106KAYNNNE_C15850.pdf; ComponentLink2Description: JLCPCB Part URL; ComponentLink2URL: https://jlcpcb.com/partdetail/C15850; ComponentLink3Description: LCSC Part URL; ComponentLink3URL: https://lcsc.com/product-detail/Multilayer-Ceramic-Capacitors-MLCC---SMD-SMT_Samsung-Electro-Mechanics-Samsung-Electro-Mechanics-CL21A106KAYNNNE_C15850.html; ComponentLink4Description: Samsung Component Library; ComponentLink4URL: https://weblib.samsungsem.com/mlcc/mlcc-ec.do?partNumber=CL21A106KAYNNN; Impedance (25V Bias) @ 500MHz: 0.519Ω
footprint CAP-0805 (0805 (2012M) Capacitor)
pins: 1, 2

## CL21A225KBQNNNE
designator C?  Capacitance: 2.2uF  (hidden comment: *)
Capacitor, Ceramic (MLCC), 2.2uF, ±10%, 50V, X5R, ±10%, SMD 0805; Manufacturer: Samsung Electro-Mechanics; Manufacturer Part Number: CL21A225KBQNNNE; Temperature Rating: -55°C ~ 85°C; Capacitance @ 1V DC Bias: 2.164uF; Capacitance @ 1.2V DC Bias: 2.169uF; Capacitance @ 1.35V DC Bias: 2.172uF; Capacitance @ 1.5V DC Bias: 2.174uF; Capacitance @ 1.8V DC Bias: 2.175uF; Capacitance @ 2.5V DC Bias: 2.152uF; Capacitance @ 3.3V DC Bias: 2.100uF; Capacitance @ 3.7V DC Bias: 2.067uF; Capacitance @ 4.2V DC Bias: 2.022uF; Capacitance @ 5V DC Bias: 1.940uF; Capacitance @ 9V DC Bias: 1.482uF; Capacitance @ 12V DC Bias: 1.214uF; Capacitance @ 15V DC Bias: 0.992uF; Capacitance @ 24V DC Bias: 0.604uF; Capacitance @ 36V DC Bias: 0.369uF; Capacitance @ 48V DC Bias: 0.274uF; Impedance (0V Bias) @ 100Hz: 786Ω; Impedance (0V Bias) @ 500Hz: 159Ω; Impedance (0V Bias) @ 1kHz: 80.1Ω; Impedance (0V Bias) @ 5kHz: 16.2Ω; Impedance (0V Bias) @ 10kHz: 8.14Ω; Impedance (0V Bias) @ 50kHz: 1.65Ω; Impedance (0V Bias) @ 100kHz: 0.827Ω; Impedance (0V Bias) @ 500kHz: 0.165Ω; Impedance (0V Bias) @ 1MHz: 0.0803Ω; Impedance (0V Bias) @ 5MHz: 0.00734Ω; Impedance (0V Bias) @ 10MHz: 0.0272Ω; Impedance (0V Bias) @ 50MHz: 0.0815Ω; Impedance (0V Bias) @ 100MHz: 0.146Ω; Impedance (0V Bias) @ 500MHz: 0.601Ω; Impedance (0V Bias) @ 1GHz: 1.13Ω; Impedance (0V Bias) @ 2GHz: 2.89Ω; Impedance (0V Bias) @ 5GHz: 4.04Ω; Package Size: 0805; JLCPCB Basic Part: Yes; JLCPCB Part Number: C377773; Supplier 1: LCSC; Category: Capacitors - MLCC; Supplier Part Number 1: C377773; Tolerance: ±10%; Voltage Rating: 50V; Temperature Coefficient: X5R; RoHS: Yes; ComponentLink1Description: Datasheet; ComponentLink1URL: https://wmsc.lcsc.com/wmsc/upload/file/pdf/v2/lcsc/2304140030_Samsung-Electro-Mechanics-CL21A225KBQNNNE_C377773.pdf; ComponentLink2Description: JLCPCB Part URL; ComponentLink2URL: https://jlcpcb.com/partdetail/C377773; ComponentLink3Description: LCSC Part URL; ComponentLink3URL: https://lcsc.com/product-detail/Multilayer-Ceramic-Capacitors-MLCC---SMD-SMT_Samsung-Electro-Mechanics-Samsung-Electro-Mechanics-CL21A225KBQNNNE_C377773.html; ComponentLink4Description: Samsung Component Library; ComponentLink4URL: https://weblib.samsungsem.com/mlcc/mlcc-ec.do?partNumber=CL21A225KBQNNN
footprint CAP-0805 (0805 (2012M) Capacitor)
pins: 1, 2

## CL21A226MAQNNNE
designator C?  Capacitance: 22uF  (hidden comment: *)
Capacitor, Ceramic (MLCC), 22uF, ±20%, 25V, X5R, ±20%, SMD 0805; Manufacturer: Samsung Electro-Mechanics; Manufacturer Part Number: CL21A226MAQNNNE; Temperature Rating: -55°C ~ 85°C; Capacitance @ 1V DC Bias: 19.999uF; Capacitance @ 1.2V DC Bias: 19.563uF; Capacitance @ 1.35V DC Bias: 19.202uF; Capacitance @ 1.5V DC Bias: 18.822uF; Capacitance @ 1.8V DC Bias: 18.030uF; Capacitance @ 2.5V DC Bias: 16.029uF; Capacitance @ 3.3V DC Bias: 13.689uF; Capacitance @ 3.7V DC Bias: 12.636uF; Capacitance @ 4.2V DC Bias: 11.463uF; Capacitance @ 5V DC Bias: 9.846uF; Capacitance @ 9V DC Bias: 5.133uF; Capacitance @ 12V DC Bias: 3.756uF; Capacitance @ 15V DC Bias: 2.756uF; Capacitance @ 24V DC Bias: 1.578uF; Impedance (0V Bias) @ 100Hz: 93.6Ω; Impedance (0V Bias) @ 500Hz: 19.1Ω; Impedance (0V Bias) @ 1kHz: 9.64Ω; Impedance (0V Bias) @ 5kHz: 1.97Ω; Impedance (0V Bias) @ 10kHz: 0.992Ω; Impedance (0V Bias) @ 50kHz: 0.203Ω; Impedance (0V Bias) @ 100kHz: 0.102Ω; Impedance (0V Bias) @ 500kHz: 0.0188Ω; Impedance (0V Bias) @ 1MHz: 0.00657Ω; Impedance (0V Bias) @ 5MHz: 0.0137Ω; Impedance (0V Bias) @ 10MHz: 0.0227Ω; Impedance (0V Bias) @ 50MHz: 0.0786Ω; Impedance (0V Bias) @ 100MHz: 0.138Ω; Impedance (0V Bias) @ 500MHz: 0.487Ω; Impedance (0V Bias) @ 1GHz: 0.811Ω; Impedance (0V Bias) @ 2GHz: 1.87Ω; Impedance (0V Bias) @ 5GHz: 2.42Ω; Impedance (25V Bias) @ 100Hz: 1.09E+03Ω; Impedance (25V Bias) @ 500Hz: 219Ω; Impedance (25V Bias) @ 1kHz: 110Ω; Impedance (25V Bias) @ 5kHz: 22.1Ω; Impedance (25V Bias) @ 10kHz: 11Ω; Impedance (25V Bias) @ 50kHz: 2.22Ω; Impedance (25V Bias) @ 100kHz: 1.11Ω; Impedance (25V Bias) @ 500kHz: 0.22Ω; Impedance (25V Bias) @ 1MHz: 0.101Ω; Impedance (25V Bias) @ 5MHz: 0.008Ω; Impedance (25V Bias) @ 10MHz: 0.0343Ω; Impedance (25V Bias) @ 50MHz: 0.0782Ω; Impedance (25V Bias) @ 100MHz: 0.136Ω; Impedance (25V Bias) @ 500MHz: 0.528Ω; Impedance (25V Bias) @ 1GHz: 0.864Ω; Impedance (25V Bias) @ 2GHz: 1.78Ω; Impedance (25V Bias) @ 5GHz: 2.43Ω; Package Size: 0805; JLCPCB Basic Part: Yes; JLCPCB Part Number: C45783; Supplier 1: LCSC; Category: Capacitors - MLCC; Supplier Part Number 1: C45783; Tolerance: ±20%; Voltage Rating: 25V; Temperature Coefficient: X5R; RoHS: Yes; ComponentLink1Description: Datasheet; ComponentLink1URL: https://wmsc.lcsc.com/wmsc/upload/file/pdf/v2/lcsc/2304140030_Samsung-Electro-Mechanics-CL21A226MAQNNNE_C45783.pdf; ComponentLink2Description: JLCPCB Part URL; ComponentLink2URL: https://jlcpcb.com/partdetail/C45783; ComponentLink3Description: LCSC Part URL; ComponentLink3URL: https://lcsc.com/product-detail/Multilayer-Ceramic-Capacitors-MLCC---SMD-SMT_Samsung-Electro-Mechanics-Samsung-Electro-Mechanics-CL21A226MAQNNNE_C45783.html; ComponentLink4Description: Samsung Component Library; ComponentLink4URL: https://weblib.samsungsem.com/mlcc/mlcc-ec.do?partNumber=CL21A226MAQNNN
footprint CAP-0805 (0805 (2012M) Capacitor)
pins: 1, 2

## CL21A475KAQNNNE
designator C?  Capacitance: 4.7uF  (hidden comment: *)
Capacitor, Ceramic (MLCC), 4.7uF, ±10%, 25V, X5R, ±10%, SMD 0805; Manufacturer: Samsung Electro-Mechanics; Manufacturer Part Number: CL21A475KAQNNNE; Temperature Rating: -55°C ~ 85°C; Capacitance @ 1V DC Bias: 4.795uF; Capacitance @ 1.2V DC Bias: 4.759uF; Capacitance @ 1.35V DC Bias: 4.729uF; Capacitance @ 1.5V DC Bias: 4.696uF; Capacitance @ 1.8V DC Bias: 4.620uF; Capacitance @ 2.5V DC Bias: 4.370uF; Capacitance @ 3.3V DC Bias: 4.025uF; Capacitance @ 3.7V DC Bias: 3.842uF; Capacitance @ 4.2V DC Bias: 3.617uF; Capacitance @ 5V DC Bias: 3.271uF; Capacitance @ 9V DC Bias: 1.963uF; Capacitance @ 12V DC Bias: 1.480uF; Capacitance @ 15V DC Bias: 1.111uF; Capacitance @ 24V DC Bias: 0.615uF; Impedance (0V Bias) @ 100Hz: 460Ω; Impedance (0V Bias) @ 500Hz: 94.2Ω; Impedance (0V Bias) @ 1kHz: 47.6Ω; Impedance (0V Bias) @ 5kHz: 9.72Ω; Impedance (0V Bias) @ 10kHz: 4.9Ω; Impedance (0V Bias) @ 50kHz: 1Ω; Impedance (0V Bias) @ 100kHz: 0.504Ω; Impedance (0V Bias) @ 500kHz: 0.101Ω; Impedance (0V Bias) @ 1MHz: 0.0481Ω; Impedance (0V Bias) @ 5MHz: 0.0137Ω; Impedance (0V Bias) @ 10MHz: 0.0264Ω; Impedance (0V Bias) @ 50MHz: 0.0762Ω; Impedance (0V Bias) @ 100MHz: 0.134Ω; Impedance (0V Bias) @ 500MHz: 0.548Ω; Impedance (0V Bias) @ 1GHz: 1.04Ω; Impedance (0V Bias) @ 2GHz: 2.73Ω; Impedance (0V Bias) @ 5GHz: 3.25Ω; Impedance (25V Bias) @ 100Hz: 2.59E+03Ω; Impedance (25V Bias) @ 500Hz: 522Ω; Impedance (25V Bias) @ 1kHz: 262Ω; Impedance (25V Bias) @ 5kHz: 52.9Ω; Impedance (25V Bias) @ 10kHz: 26.5Ω; Impedance (25V Bias) @ 50kHz: 5.35Ω; Impedance (25V Bias) @ 100kHz: 2.68Ω; Impedance (25V Bias) @ 500kHz: 0.534Ω; Impedance (25V Bias) @ 1MHz: 0.234Ω; Impedance (25V Bias) @ 5MHz: 0.0443Ω; Impedance (25V Bias) @ 10MHz: 0.0123Ω; Impedance (25V Bias) @ 50MHz: 0.082Ω; Impedance (25V Bias) @ 100MHz: 0.136Ω; Impedance (25V Bias) @ 500MHz: 0.553Ω; Impedance (25V Bias) @ 1GHz: 1.05Ω; Impedance (25V Bias) @ 2GHz: 2.7Ω; Impedance (25V Bias) @ 5GHz: 3.2Ω; Package Size: 0805; JLCPCB Basic Part: Yes; JLCPCB Part Number: C1779; Supplier 1: LCSC; Category: Capacitors - MLCC; Supplier Part Number 1: C1779; Tolerance: ±10%; Voltage Rating: 25V; Temperature Coefficient: X5R; RoHS: Yes; ComponentLink1Description: Datasheet; ComponentLink1URL: https://wmsc.lcsc.com/wmsc/upload/file/pdf/v2/lcsc/2304140030_Samsung-Electro-Mechanics-CL21A475KAQNNNE_C1779.pdf; ComponentLink2Description: JLCPCB Part URL; ComponentLink2URL: https://jlcpcb.com/partdetail/C1779; ComponentLink3Description: LCSC Part URL; ComponentLink3URL: https://lcsc.com/product-detail/Multilayer-Ceramic-Capacitors-MLCC---SMD-SMT_Samsung-Electro-Mechanics-Samsung-Electro-Mechanics-CL21A475KAQNNNE_C1779.html; ComponentLink4Description: Samsung Component Library; ComponentLink4URL: https://weblib.samsungsem.com/mlcc/mlcc-ec.do?partNumber=CL21A475KAQNNN
footprint CAP-0805 (0805 (2012M) Capacitor)
pins: 1, 2

## CL21A475KBQNNNE
designator C?, comment 4.7uF
CAP CER 4.7UF 50V ±10% X5R 0805; Supplier 1: Digikey; Supplier Part Number 1: 1276-1248-1-ND; Supplier 2: LCSC; Supplier Part Number 2: C98192; Supplier 3: Digikey; Supplier Part Number 3: 490-12394-1-ND; Supplier 4: LCSC; Supplier Part Number 4: C513770
footprint CAP 0805_2012 (Chip Capacitor, 2-Leads, Body 2.00x1.20mm, IPC Medium Density)
pins: 1, 2

## CL21A476MQYNNNE
designator C?  Capacitance: 47uF  (hidden comment: *)
Capacitor, Ceramic (MLCC), 47uF, ±20%, 6.3V, X5R, ±20%, SMD 0805; Manufacturer: Samsung Electro-Mechanics; Manufacturer Part Number: CL21A476MQYNNNE; Temperature Rating: -55°C ~ 85°C; Capacitance @ 1V DC Bias: 37.588uF; Capacitance @ 1.2V DC Bias: 35.744uF; Capacitance @ 1.35V DC Bias: 34.267uF; Capacitance @ 1.5V DC Bias: 32.775uF; Capacitance @ 1.8V DC Bias: 29.885uF; Capacitance @ 2.5V DC Bias: 24.262uF; Capacitance @ 3.3V DC Bias: 18.956uF; Capacitance @ 3.7V DC Bias: 16.988uF; Capacitance @ 4.2V DC Bias: 14.989uF; Capacitance @ 5V DC Bias: 12.411uF; Impedance (0V Bias) @ 100Hz: 51.8Ω; Impedance (0V Bias) @ 500Hz: 10.7Ω; Impedance (0V Bias) @ 1kHz: 5.39Ω; Impedance (0V Bias) @ 5kHz: 1.11Ω; Impedance (0V Bias) @ 10kHz: 0.559Ω; Impedance (0V Bias) @ 50kHz: 0.115Ω; Impedance (0V Bias) @ 100kHz: 0.0576Ω; Impedance (0V Bias) @ 500kHz: 0.00947Ω; Impedance (0V Bias) @ 1MHz: 0.00305Ω; Impedance (0V Bias) @ 5MHz: 0.0134Ω; Impedance (0V Bias) @ 10MHz: 0.0218Ω; Impedance (0V Bias) @ 50MHz: 0.0701Ω; Impedance (0V Bias) @ 100MHz: 0.113Ω; Impedance (0V Bias) @ 500MHz: 0.391Ω; Impedance (0V Bias) @ 1GHz: 0.706Ω; Impedance (0V Bias) @ 2GHz: 1.8Ω; Impedance (0V Bias) @ 5GHz: 2.67Ω; Package Size: 0805; JLCPCB Basic Part: Yes; JLCPCB Part Number: C16780; Supplier 1: LCSC; Category: Capacitors - MLCC; Supplier Part Number 1: C16780; Tolerance: ±20%; Voltage Rating: 6.3V; Temperature Coefficient: X5R; RoHS: Yes; ComponentLink1Description: Datasheet; ComponentLink1URL: https://wmsc.lcsc.com/wmsc/upload/file/pdf/v2/lcsc/2304140030_Samsung-Electro-Mechanics-CL21A476MQYNNNE_C16780.pdf; ComponentLink2Description: JLCPCB Part URL; ComponentLink2URL: https://jlcpcb.com/partdetail/C16780; ComponentLink3Description: LCSC Part URL; ComponentLink3URL: https://lcsc.com/product-detail/Multilayer-Ceramic-Capacitors-MLCC---SMD-SMT_Samsung-Electro-Mechanics-Samsung-Electro-Mechanics-CL21A476MQYNNNE_C16780.html; ComponentLink4Description: Samsung Component Library; ComponentLink4URL: https://weblib.samsungsem.com/mlcc/mlcc-ec.do?partNumber=CL21A476MQYNNN
footprint CAP-0805 (0805 (2012M) Capacitor)
pins: 1, 2

## CL21B102KBCNNNC
designator C?  Capacitance: 1nF  (hidden comment: *)
Capacitor, Ceramic (MLCC), 1nF, ±10%, 50V, X7R, ±10%, SMD 0805; Manufacturer: Samsung Electro-Mechanics; Manufacturer Part Number: CL21B102KBCNNNC; Temperature Rating: -55°C ~ 125°C; Capacitance @ 1V DC Bias: 1.006nF; Capacitance @ 1.2V DC Bias: 1.008nF; Capacitance @ 1.35V DC Bias: 1.009nF; Capacitance @ 1.8V DC Bias: 1.011nF; Capacitance @ 2.5V DC Bias: 1.013nF; Capacitance @ 3.3V DC Bias: 1.014nF; Capacitance @ 3.7V DC Bias: 1.015nF; Capacitance @ 4.2V DC Bias: 1.017nF; Capacitance @ 5V DC Bias: 1.018nF; Capacitance @ 9V DC Bias: 1.022nF; Capacitance @ 12V DC Bias: 1.021nF; Capacitance @ 15V DC Bias: 1.020nF; Capacitance @ 24V DC Bias: 1.012nF; Capacitance @ 36V DC Bias: 0.995nF; Capacitance @ 48V DC Bias: 0.975nF; Impedance (0V Bias) @ 100Hz: 1.39E+06Ω; Impedance (0V Bias) @ 500Hz: 2.85E+05Ω; Impedance (0V Bias) @ 1kHz: 1.43E+05Ω; Impedance (0V Bias) @ 5kHz: 2.92E+04Ω; Impedance (0V Bias) @ 10kHz: 1.47E+04Ω; Impedance (0V Bias) @ 50kHz: 3E+03Ω; Impedance (0V Bias) @ 100kHz: 1.51E+03Ω; Impedance (0V Bias) @ 500kHz: 307Ω; Impedance (0V Bias) @ 1MHz: 155Ω; Impedance (0V Bias) @ 5MHz: 31.6Ω; Impedance (0V Bias) @ 10MHz: 15.9Ω; Impedance (0V Bias) @ 50MHz: 3.25Ω; Impedance (0V Bias) @ 100MHz: 1.41Ω; Impedance (0V Bias) @ 500MHz: 1.58Ω; Impedance (0V Bias) @ 1GHz: 3.83Ω; Impedance (0V Bias) @ 2GHz: 12.4Ω; Impedance (0V Bias) @ 5GHz: 7.64Ω; Package Size: 0805; JLCPCB Basic Part: Yes; JLCPCB Part Number: C46653; Supplier 1: LCSC; Category: Capacitors - MLCC; Supplier Part Number 1: C46653; Tolerance: ±10%; Voltage Rating: 50V; Temperature Coefficient: X7R; RoHS: Yes; ComponentLink1Description: Datasheet; ComponentLink1URL: https://wmsc.lcsc.com/wmsc/upload/file/pdf/v2/lcsc/2304140030_Samsung-Electro-Mechanics-CL21B102KBCNNNC_C46653.pdf; ComponentLink2Description: JLCPCB Part URL; ComponentLink2URL: https://jlcpcb.com/partdetail/C46653; ComponentLink3Description: LCSC Part URL; ComponentLink3URL: https://lcsc.com/product-detail/Multilayer-Ceramic-Capacitors-MLCC---SMD-SMT_Samsung-Electro-Mechanics-Samsung-Electro-Mechanics-CL21B102KBCNNNC_C46653.html; ComponentLink4Description: Samsung Component Library; ComponentLink4URL: https://weblib.samsungsem.com/mlcc/mlcc-ec.do?partNumber=CL21B102KBCNNN; Capacitance @ 1.5V DC Bias: 1.009nF
footprint CAP-0805 (0805 (2012M) Capacitor)
pins: 1, 2

## CL21B103KBANNNC
designator C?  Capacitance: 10nF  (hidden comment: *)
Capacitor, Ceramic (MLCC), 10nF, ±10%, 50V, X7R, ±10%, SMD 0805; Manufacturer: Samsung Electro-Mechanics; Manufacturer Part Number: CL21B103KBANNNC; Temperature Rating: -55°C ~ 125°C; Capacitance @ 1V DC Bias: 10.421nF; Capacitance @ 1.2V DC Bias: 10.439nF; Capacitance @ 1.35V DC Bias: 10.451nF; Capacitance @ 1.5V DC Bias: 10.463nF; Capacitance @ 1.8V DC Bias: 10.484nF; Capacitance @ 2.5V DC Bias: 10.524nF; Capacitance @ 3.3V DC Bias: 10.551nF; Capacitance @ 3.7V DC Bias: 10.557nF; Capacitance @ 4.2V DC Bias: 10.562nF; Capacitance @ 5V DC Bias: 10.565nF; Capacitance @ 9V DC Bias: 10.540nF; Capacitance @ 12V DC Bias: 10.487nF; Capacitance @ 15V DC Bias: 10.434nF; Capacitance @ 24V DC Bias: 10.218nF; Capacitance @ 36V DC Bias: 9.802nF; Capacitance @ 48V DC Bias: 9.240nF; Impedance (0V Bias) @ 100Hz: 1.5E+05Ω; Impedance (0V Bias) @ 500Hz: 3.04E+04Ω; Impedance (0V Bias) @ 1kHz: 1.53E+04Ω; Impedance (0V Bias) @ 5kHz: 3.11E+03Ω; Impedance (0V Bias) @ 10kHz: 1.56E+03Ω; Impedance (0V Bias) @ 50kHz: 318Ω; Impedance (0V Bias) @ 100kHz: 160Ω; Impedance (0V Bias) @ 500kHz: 32.5Ω; Impedance (0V Bias) @ 1MHz: 16.4Ω; Impedance (0V Bias) @ 5MHz: 3.34Ω; Impedance (0V Bias) @ 10MHz: 1.67Ω; Impedance (0V Bias) @ 50MHz: 0.236Ω; Impedance (0V Bias) @ 100MHz: 0.108Ω; Impedance (0V Bias) @ 500MHz: 0.894Ω; Impedance (0V Bias) @ 1GHz: 1.72Ω; Impedance (0V Bias) @ 2GHz: 4.58Ω; Impedance (0V Bias) @ 5GHz: 7.79Ω; Package Size: 0805; JLCPCB Basic Part: Yes; JLCPCB Part Number: C1710; Supplier 1: LCSC; Category: Capacitors - MLCC; Supplier Part Number 1: C1710; Tolerance: ±10%; Voltage Rating: 50V; Temperature Coefficient: X7R; RoHS: Yes; ComponentLink1Description: Datasheet; ComponentLink1URL: https://wmsc.lcsc.com/wmsc/upload/file/pdf/v2/lcsc/2304140030_Samsung-Electro-Mechanics-CL21B103KBANNNC_C1710.pdf; ComponentLink2Description: JLCPCB Part URL; ComponentLink2URL: https://jlcpcb.com/partdetail/C1710; ComponentLink3Description: LCSC Part URL; ComponentLink3URL: https://lcsc.com/product-detail/Multilayer-Ceramic-Capacitors-MLCC---SMD-SMT_Samsung-Electro-Mechanics-Samsung-Electro-Mechanics-CL21B103KBANNNC_C1710.html; ComponentLink4Description: Samsung Component Library; ComponentLink4URL: https://weblib.samsungsem.com/mlcc/mlcc-ec.do?partNumber=CL21B103KBANNN
footprint CAP-0805 (0805 (2012M) Capacitor)
pins: 1, 2

## CL21B104KCFNNNE
designator C?  Capacitance: 100nF  (hidden comment: *)
Capacitor, Ceramic (MLCC), 100nF, ±10%, 100V, X7R, ±10%, SMD 0805; Manufacturer: Samsung Electro-Mechanics; Manufacturer Part Number: CL21B104KCFNNNE; Temperature Rating: -55°C ~ 125°C; Capacitance @ 1V DC Bias: 101065.938nF; Capacitance @ 1.2V DC Bias: 100968.420nF; Capacitance @ 1.35V DC Bias: 100895.282nF; Capacitance @ 1.5V DC Bias: 100822.144nF; Capacitance @ 1.8V DC Bias: 100675.867nF; Capacitance @ 2.5V DC Bias: 100344.024nF; Capacitance @ 3.3V DC Bias: 99970.523nF; Capacitance @ 3.7V DC Bias: 99784.956nF; Capacitance @ 4.2V DC Bias: 99551.104nF; Capacitance @ 5V DC Bias: 99172.396nF; Capacitance @ 9V DC Bias: 96900.107nF; Capacitance @ 12V DC Bias: 94467.789nF; Capacitance @ 15V DC Bias: 91499.708nF; Capacitance @ 24V DC Bias: 81367.024nF; Capacitance @ 36V DC Bias: 66480.736nF; Capacitance @ 48V DC Bias: 52824.432nF; Impedance (0V Bias) @ 100Hz: 1.75E+04Ω; Impedance (0V Bias) @ 500Hz: 3.55E+03Ω; Impedance (0V Bias) @ 1kHz: 1.79E+03Ω; Impedance (0V Bias) @ 5kHz: 363Ω; Impedance (0V Bias) @ 10kHz: 182Ω; Impedance (0V Bias) @ 50kHz: 37Ω; Impedance (0V Bias) @ 100kHz: 18.6Ω; Impedance (0V Bias) @ 500kHz: 3.77Ω; Impedance (0V Bias) @ 1MHz: 1.89Ω; Impedance (0V Bias) @ 5MHz: 0.369Ω; Impedance (0V Bias) @ 10MHz: 0.16Ω; Impedance (0V Bias) @ 50MHz: 0.132Ω; Impedance (0V Bias) @ 100MHz: 0.298Ω; Impedance (0V Bias) @ 500MHz: 1.41Ω; Impedance (0V Bias) @ 1GHz: 2.88Ω; Impedance (0V Bias) @ 2GHz: 9Ω; Impedance (0V Bias) @ 5GHz: 8.8Ω; Package Size: 0805; JLCPCB Basic Part: Yes; JLCPCB Part Number: C28233; Supplier 1: LCSC; Category: Capacitors - MLCC; Supplier Part Number 1: C28233; Tolerance: ±10%; Voltage Rating: 100V; Temperature Coefficient: X7R; RoHS: Yes; ComponentLink1Description: Datasheet; ComponentLink1URL: https://wmsc.lcsc.com/wmsc/upload/file/pdf/v2/lcsc/2304140030_Samsung-Electro-Mechanics-CL21B104KCFNNNE_C28233.pdf; ComponentLink2Description: JLCPCB Part URL; ComponentLink2URL: https://jlcpcb.com/partdetail/C28233; ComponentLink3Description: LCSC Part URL; ComponentLink3URL: https://lcsc.com/product-detail/Multilayer-Ceramic-Capacitors-MLCC---SMD-SMT_Samsung-Electro-Mechanics-Samsung-Electro-Mechanics-CL21B104KCFNNNE_C28233.html; ComponentLink4Description: Samsung Component Library; ComponentLink4URL: https://weblib.samsungsem.com/mlcc/mlcc-ec.do?partNumber=CL21B104KCFNNN
footprint CAP-0805 (0805 (2012M) Capacitor)
pins: 1, 2